# Altium footprint library BM08B-SURS-TF.PcbLib: 1 footprints
Each footprint in its own frame and in the unit in brackets; x right, y up, seen from the top. Pads: shape width x height; smd on the part's side, far side on the other; paste and mask are expansions set on the pad; w line width, h text height; cw(c..) or ccw(c..) is an arc to the next point about the centre after c.
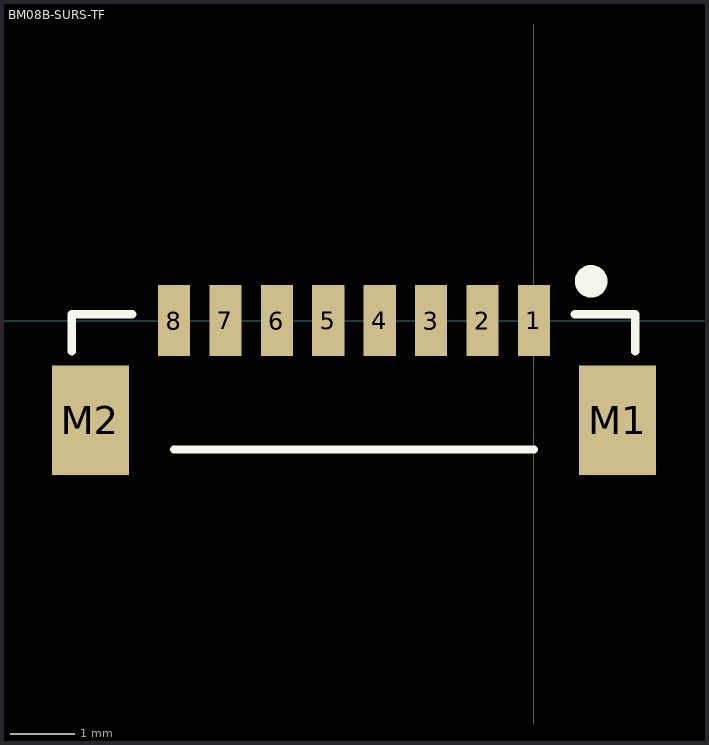
[diagram p0: the footprint, top view; thin cyan lines are the x and y axes]

## BM08B-SURS-TF [mm]
pads (10):
  rect 0.5x1.1 smd: 1(0,0) 2(-0.8,0) 3(-1.6,0) 4(-2.4,0) 5(-3.2,0) 6(-4,0) 7(-4.8,0) 8(-5.6,0)
  rect 1.2x1.7 smd: M1(1.3,-1.55) M2(-6.9,-1.55)
Top Overlay:
  lines w0.13: -7.188,-0.483 -7.188,0.1 -6.249,0.1 ; -5.6,-2.007 0,-2.007 ; 0.635,0.1 1.575,0.1 1.575,-0.483
  lines w0.254: 1.006,0.66 ccw(c0.889,0.61) 1.008,0.653
3D body "BM08B-SURS-TF.STEP": height 2.7, standoff -0.05, extent -7.107,-1.93 1.493,0.32